# EAGLE library part MOD_RN52 (library akita)
Microchip's RN52, Bluetooth module
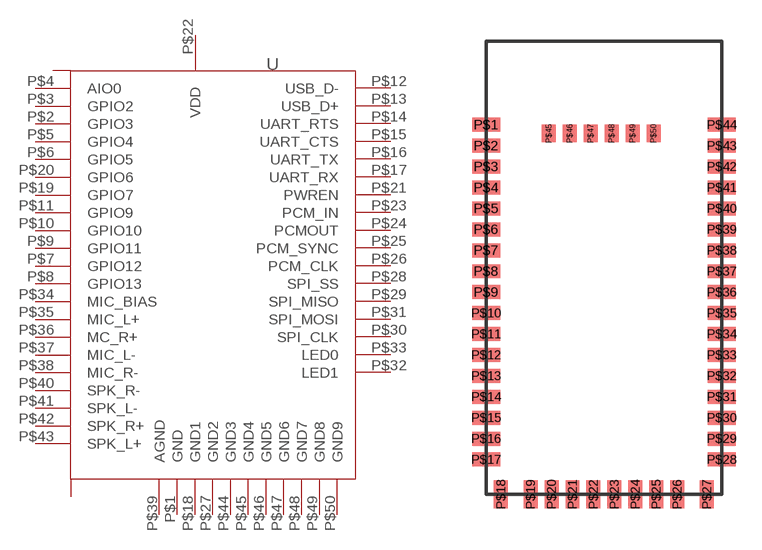
[diagram p189: symbol with the pads of MOD_RN52; footprint MOD_RN52]

Designator prefix U

## MOD_RN52  [MOD_RN52]
P$1  GND
P$2  GPIO3
P$3  GPIO2
P$4  AIO0
P$5  GPIO4
P$6  GPIO5
P$7  GPIO12
P$8  GPIO13
P$9  GPIO11
P$10  GPIO10
P$11  GPIO9
P$12  USB_D-
P$13  USB_D+
P$14  UART_RTS
P$15  UART_CTS
P$16  UART_TX
P$17  UART_RX
P$18  GND1
P$19  GPIO7
P$20  GPIO6
P$21  PWREN
P$22  VDD
P$23  PCM_IN
P$24  PCMOUT
P$25  PCM_SYNC
P$26  PCM_CLK
P$27  GND2
P$28  SPI_SS
P$29  SPI_MISO
P$30  SPI_CLK
P$31  SPI_MOSI
P$32  LED1
P$33  LED0
P$34  MIC_BIAS
P$35  MIC_L+
P$36  MC_R+
P$37  MIC_L-
P$38  MIC_R-
P$39  AGND
P$40  SPK_R-
P$41  SPK_L-
P$42  SPK_R+
P$43  SPK_L+
P$44  GND3
P$45  GND4
P$46  GND5
P$47  GND6
P$48  GND7
P$49  GND8
P$50  GND9

## Footprint MOD_RN52 (pad centres in mm)
Microchip's RN52, Bluetooth module
smd 1.6 x 0.8: P$1 0,21.2; P$2 0,20; P$3 0,18.8; P$4 0,17.6; P$5 0,16.4; P$6 0,15.2; P$7 0,14; P$8 0,12.8; P$9 0,11.6; P$10 0,10.4; P$11 0,9.2; P$12 0,8; P$13 0,6.8; P$14 0,5.6; P$15 0,4.4; P$16 0,3.2; P$17 0,2; P$28 13.5,2; P$29 13.5,3.2; P$30 13.5,4.4; P$31 13.5,5.6; P$32 13.5,6.8; P$33 13.5,8; P$34 13.5,9.2; P$35 13.5,10.4; P$36 13.5,11.6; P$37 13.5,12.8; P$38 13.5,14; P$39 13.5,15.2; P$40 13.5,16.4; P$41 13.5,17.6; P$42 13.5,18.8; P$43 13.5,20; P$44 13.5,21.2
smd 0.8 x 1.6: P$18 0.85,0; P$19 2.55,0; P$20 3.75,0; P$21 4.95,0; P$22 6.15,0; P$23 7.35,0; P$24 8.55,0; P$25 9.75,0; P$26 10.95,0; P$27 12.65,0
smd 0.8 x 1: P$45 3.6,20.7; P$46 4.8,20.7; P$47 6,20.7; P$48 7.2,20.7; P$49 8.4,20.7; P$50 9.6,20.7